# EAGLE library part CON6P1R (library ads)
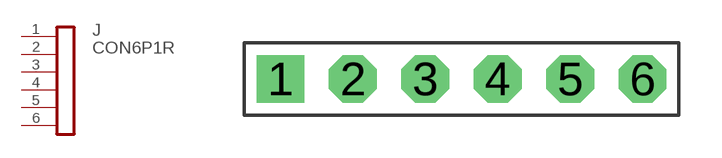
[diagram p14: symbol with the pads of CON6P1R; footprint CON6P1R]

Designator prefix J

## CON6P1R  [CON6P1R]
1  1
2  2
3  3
4  4
5  5
6  6

## Footprint CON6P1R (pad centres in mm)
drill 1.016 pad 1.676 square: 1 -5.08,0
drill 1.016 pad 1.676 octagon: 2 -2.54,0; 3 0,0; 4 2.54,0; 5 5.08,0; 6 7.62,0